# EAGLE library part TAS5760L (library marius)
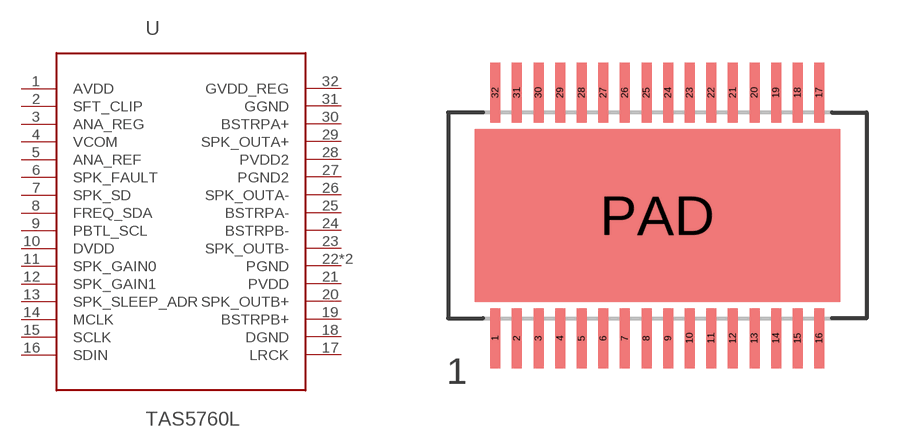
[diagram p4: symbol with the pads of HTSSOP-32; footprint HTSSOP-32]

Designator prefix U

## TAS5760L (DIGIKEY: 296-36484-5-ND; MPN: TAS5760L)  [HTSSOP-32]
1  AVDD
2  SFT_CLIP
3  ANA_REG
4  VCOM
5  ANA_REF
6  SPK_FAULT
7  SPK_SD
8  FREQ_SDA
9  PBTL_SCL
10  DVDD
11  SPK_GAIN0
12  SPK_GAIN1
13  SPK_SLEEP_ADR
14  MCLK
15  SCLK
16  SDIN
17  LRCK
18  DGND
19  BSTRPB+
20  SPK_OUTB+
21  PVDD
22  PGND
23  SPK_OUTB-
24  BSTRPB-
25  BSTRPA-
26  SPK_OUTA-
27  PGND2
28  PVDD2
29  SPK_OUTA+
30  BSTRPA+
31  GGND
32  GVDD_REG
PAD  PGND

## Footprint HTSSOP-32 (pad centres in mm)
smd 0.3 x 1.8: 1 -4.875,-3.7; 2 -4.225,-3.7; 3 -3.575,-3.7; 4 -2.925,-3.7; 5 -2.275,-3.7; 6 -1.625,-3.7; 7 -0.975,-3.7; 8 -0.325,-3.7; 9 0.325,-3.7; 10 0.975,-3.7; 11 1.625,-3.7; 12 2.275,-3.7; 13 2.925,-3.7; 14 3.575,-3.7; 15 4.225,-3.7; 16 4.875,-3.7; 17 4.875,3.7; 18 4.225,3.7; 19 3.575,3.7; 20 2.925,3.7; 21 2.275,3.7; 22 1.625,3.7; 23 0.975,3.7; 24 0.325,3.7; 25 -0.325,3.7; 26 -0.975,3.7; 27 -1.625,3.7; 28 -2.275,3.7; 29 -2.925,3.7; 30 -3.575,3.7; 31 -4.225,3.7; 32 -4.875,3.7
smd 11 x 5.2: PAD 0,0